# Altium footprint library Capacitors.PcbLib: 81 footprints (part 4 of 6)
Each footprint in its own frame and in the unit in brackets; x right, y up, seen from the top. Pads: shape width x height; smd on the part's side, far side on the other; paste and mask are expansions set on the pad; w line width, h text height; cw(c..) or ccw(c..) is an arc to the next point about the centre after c.
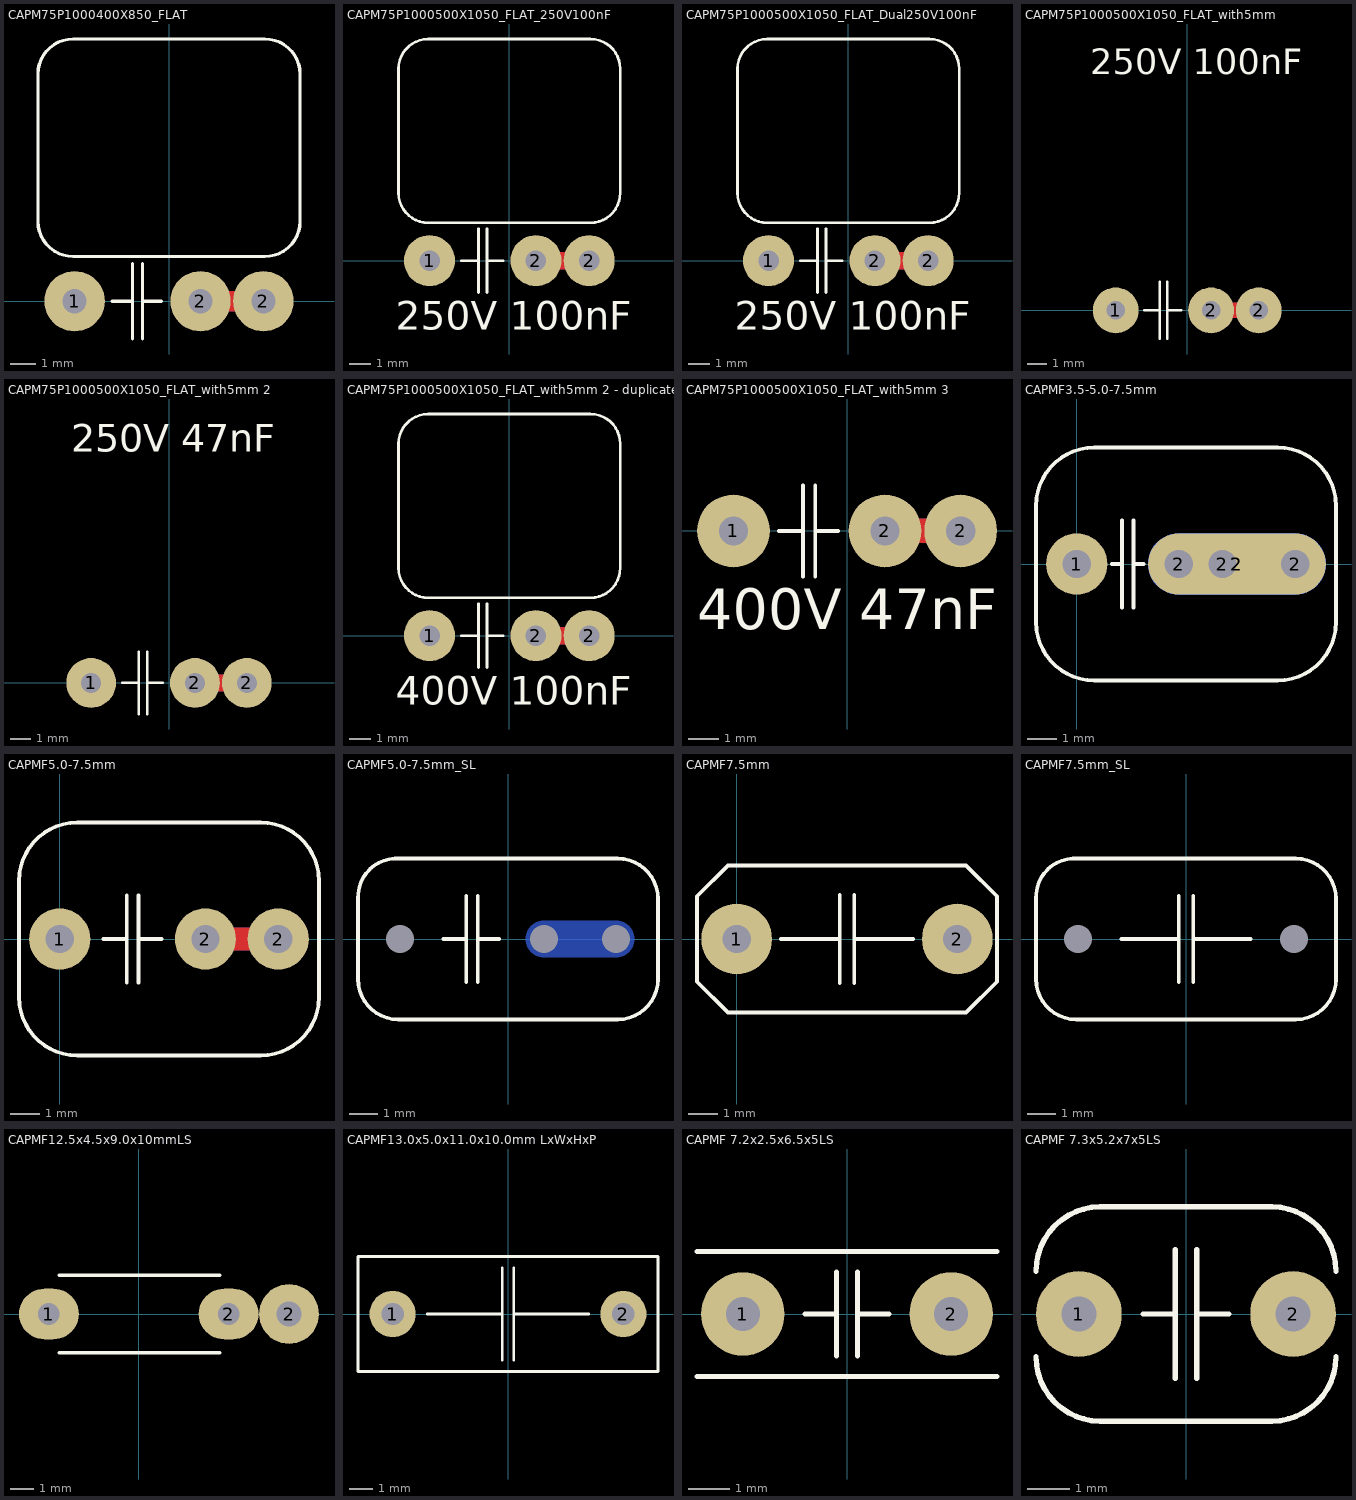
[diagram p3: the footprints below, top view; thin cyan lines are the x and y axes]

## CAPM75P1000400X850_FLAT [mm] "Capacitor, THT, Metallized Polyester Film with 3.5x9.5x10.0mm TxHxW"
height 3.5
pads (3):
  round 2.4 hole 0.965: 1(-3.75,0) 2(1.25,0) 2(3.75,0)
Top Layer:
  lines w0.813: 1.25,0 3.75,0
Bottom Layer:
  lines w0.813: 1.25,0 3.75,0
Top Overlay:
  lines w0.127: -2.25,0 -1.45,0 ; -1.45,-1.5 -1.45,1.5 ; -1.05,-1.5 -1.05,1.5 ; -1.05,0 -0.3,0 ; -5.207,3.175 ccw(c-3.81,3.175) -3.81,1.778 3.81,1.778 ccw(c3.81,3.175) 5.207,3.175 5.207,9.017 ccw(c3.81,9.017) 3.81,10.414 -3.81,10.414 ccw(c-3.81,9.017) -5.207,9.017 -5.207,3.175
3D body "CAPM75P1000400X850_FLAT.STEP": height 4, standoff -1.78, extent -5,-0.249 5,9.6

## CAPM75P1000500X1050_FLAT_250V100nF [mm] "Capacitor, THT, Metallized Polyester Film with 3.5x9.5x10.0mm TxHxW"
height 3.5
pads (3):
  round 2.4 hole 0.965: 1(-3.75,0) 2(1.25,0) 2(3.75,0)
Top Layer:
  lines w0.813: 1.25,0 3.75,0
Bottom Layer:
  lines w0.813: 1.25,0 3.75,0
Top Overlay:
  lines w0.127: -2.25,0 -1.45,0 ; -1.45,-1.5 -1.45,1.5 ; -1.05,-1.5 -1.05,1.5 ; -1.05,0 -0.3,0 ; -5.207,3.175 ccw(c-3.81,3.175) -3.81,1.778 3.81,1.778 ccw(c3.81,3.175) 5.207,3.175 5.207,9.017 ccw(c3.81,9.017) 3.81,10.414 -3.81,10.414 ccw(c-3.81,9.017) -5.207,9.017 -5.207,3.175
  text "250V 100nF" at -5.334,-3.683 h2.29
3D body "CAPM50P730450X950_FLAT.STEP": height 4.5, standoff -1.78, extent -4.92,-0.249 2.38,10.6
3D body "CAPM75P1000400X850_FLAT.STEP": height 4, standoff -1.78, extent -5,-0.249 5,9.6

## CAPM75P1000500X1050_FLAT_Dual250V100nF [mm] "Capacitor, THT, Metallized Polyester Film with 3.5x9.5x10.0mm TxHxW"
height 3.5
pads (3):
  round 2.4 hole 0.965: 1(-3.75,0) 2(1.25,0) 2(3.75,0)
Top Layer:
  lines w0.813: 1.25,0 3.75,0
Bottom Layer:
  lines w0.813: 1.25,0 3.75,0
Top Overlay:
  lines w0.127: -2.25,0 -1.45,0 ; -1.45,-1.5 -1.45,1.5 ; -1.05,-1.5 -1.05,1.5 ; -1.05,0 -0.3,0 ; -5.207,3.175 ccw(c-3.81,3.175) -3.81,1.778 3.81,1.778 ccw(c3.81,3.175) 5.207,3.175 5.207,9.017 ccw(c3.81,9.017) 3.81,10.414 -3.81,10.414 ccw(c-3.81,9.017) -5.207,9.017 -5.207,3.175
  text "250V 100nF" at -5.334,-3.683 h2.29
3D body "CAPMUC75P900420X810_FLAT.STEP": height 4.2, standoff -1.78, extent -4.5,-0.249 4.5,9.6
3D body "CAPMUC50P650570X860_FLAT.STEP": height 5.7, standoff -1.78, extent -4.5,-0.249 2,10.1
3D body "CAPM50P760540X1040_FLAT.STEP": height 5.4, standoff -1.78, extent -5.05,-0.249 2.55,11.5
3D body "CAPM50P730450X950_FLAT.STEP": height 4.5, standoff -1.78, extent -4.9,-0.249 2.4,10.6
3D body "CAPM75P1000400X850_FLAT.STEP": height 4, standoff -1.78, extent -5,-0.249 5,9.6

## CAPM75P1000500X1050_FLAT_with5mm [mm] "Capacitor, THT, Metallized Polyester Film with 3.5x9.5x10.0mm TxHxW"
height 3.5
pads (3):
  round 2.4 hole 0.965: 1(-3.75,0) 2(1.25,0) 2(3.75,0)
Top Layer:
  lines w0.813: 1.25,0 3.75,0
Bottom Layer:
  lines w0.813: 1.25,0 3.75,0
Top Overlay:
  lines w0.127: -2.25,0 -1.45,0 ; -1.45,-1.5 -1.45,1.5 ; -1.05,-1.5 -1.05,1.5 ; -1.05,0 -0.3,0
  text "250V 100nF" at -5.08,11.938 h2.29
3D body "CAPM50P730450X950_FLAT.STEP": height 4.5, standoff -1.78, extent -4.92,-0.249 2.38,10.6
3D body "CAPM75P1000400X850_FLAT.STEP": height 4, standoff -1.78, extent -5,-0.249 5,9.6

## CAPM75P1000500X1050_FLAT_with5mm 2 [mm] "Capacitor, THT, Metallized Polyester Film with 3.5x9.5x10.0mm TxHxW"
height 3.5
pads (3):
  round 2.4 hole 0.965: 1(-3.75,0) 2(1.25,0) 2(3.75,0)
Top Layer:
  lines w0.813: 1.25,0 3.75,0
Bottom Layer:
  lines w0.813: 1.25,0 3.75,0
Top Overlay:
  lines w0.127: -2.25,0 -1.45,0 ; -1.45,-1.5 -1.45,1.5 ; -1.05,-1.5 -1.05,1.5 ; -1.05,0 -0.3,0
  text "250V 47nF" at -4.699,10.668 h2.29
3D body "CAPM75P1000250X700_FLAT.STEP": height 2.5, standoff -1.78, extent -5,-0.249 5,8.1
3D body "CAPM50P720350X800_FLAT.STEP": height 3.5, standoff -1.78, extent -4.87,-0.249 2.33,9.1

## CAPM75P1000500X1050_FLAT_with5mm 2 - duplicate [mm] "Capacitor, THT, Metallized Polyester Film with 3.5x9.5x10.0mm TxHxW"
height 3.5
pads (3):
  round 2.4 hole 0.965: 1(-3.75,0) 2(1.25,0) 2(3.75,0)
Top Layer:
  lines w0.813: 1.25,0 3.75,0
Bottom Layer:
  lines w0.813: 1.25,0 3.75,0
Top Overlay:
  lines w0.127: -2.25,0 -1.45,0 ; -1.45,-1.5 -1.45,1.5 ; -1.05,-1.5 -1.05,1.5 ; -1.05,0 -0.3,0 ; -5.207,3.175 ccw(c-3.81,3.175) -3.81,1.778 3.81,1.778 ccw(c3.81,3.175) 5.207,3.175 5.207,9.017 ccw(c3.81,9.017) 3.81,10.414 -3.81,10.414 ccw(c-3.81,9.017) -5.207,9.017 -5.207,3.175
  text "400V 100nF" at -5.334,-3.683 h2.29
3D body "CAPM50P780780X1300_FLAT.STEP": height 7.8, standoff -1.78, extent -5.17,-0.249 2.63,14.1
3D body "CAPM75P1000500X1050_FLAT.STEP": height 5, standoff -1.78, extent -5,-0.249 5,11.6

## CAPM75P1000500X1050_FLAT_with5mm 3 [mm] "Capacitor, THT, Metallized Polyester Film with 3.5x9.5x10.0mm TxHxW"
height 3.5
pads (3):
  round 2.4 hole 0.965: 1(-3.75,0) 2(1.25,0) 2(3.75,0)
Top Layer:
  lines w0.813: 1.25,0 3.75,0
Bottom Layer:
  lines w0.813: 1.25,0 3.75,0
Top Overlay:
  lines w0.127: -2.25,0 -1.45,0 ; -1.45,-1.5 -1.45,1.5 ; -1.05,-1.5 -1.05,1.5 ; -1.05,0 -0.3,0
  text "400V 47nF" at -4.953,-3.683 h2.29
3D body "CAPM75P1000400X850_FLAT.STEP": height 4, standoff -1.78, extent -5,-0.249 5,9.6
3D body "CAPM50P730450X950_FLAT.STEP": height 4.5, standoff -1.78, extent -4.92,-0.249 2.38,10.6

## CAPMF3.5-5.0-7.5mm [mm] "Capacitor, THT, Metallized Polyester Film, 3.5 & 5.0 & 7.5mm pitch hybrid"
height 10
pads (6):
  round 2.1 hole 0.965: 1(0,0)
  round 1.5 hole 0.965: 2(3.5,0) 2(5,0) 2(7.5,0)
  oval 6.1x2.1 smd: 2(5.5,0)
  oval 6.1x2.1 smd far side: 2(5.5,0)
Top Overlay:
  lines w0.127: 1.2,0 1.55,0 ; 1.55,-1.5 1.55,1.5 ; 1.95,-1.5 1.95,1.5 ; 1.95,0 2.3,0 ; -1.4,-2 ccw(c0.6,-2) 0.6,-4 6.9,-4 ccw(c6.9,-2) 8.9,-2 8.9,2 ccw(c6.9,2) 6.9,4 0.6,4 ccw(c0.6,2) -1.4,2 -1.4,-2
3D body "mfcap_7.5mm 10x8x11mm.stp": height 11, standoff -2.54, extent -1.25,-4 8.75,4

## CAPMF5.0-7.5mm [mm] "Capacitor, THT, Metallized Polyester Film, 5 & 7.5mm pitch hybrid"
height 10
pads (3):
  round 2.1 hole 0.965: 1(0,0) 2(5,0) 2(7.5,0)
Top Layer:
  lines w0.8: 5,0 7.5,0
Bottom Layer:
  lines w0.8: 5,0 7.5,0
Top Overlay:
  lines w0.127: 1.5,0 2.3,0 ; 2.3,-1.5 2.3,1.5 ; 2.7,-1.5 2.7,1.5 ; 2.7,0 3.5,0 ; -1.4,-2 ccw(c0.6,-2) 0.6,-4 6.9,-4 ccw(c6.9,-2) 8.9,-2 8.9,2 ccw(c6.9,2) 6.9,4 0.6,4 ccw(c0.6,2) -1.4,2 -1.4,-2
3D body "mfcap_7.5mm 10x8x11mm.stp": height 11, standoff -2.54, extent -1.25,-4 8.75,4

## CAPMF5.0-7.5mm_SL [mm] "Capacitor, THT, Metallized Polyester Film"
height 9
pads (3):
  round 0 / inner round 0 / far side round 2.4 hole 0.965 unplated: 1(-3.75,0) 2(1.25,0) 2(3.75,0)
Bottom Layer:
  lines w1.27: 1.25,0 3.75,0
Top Overlay:
  lines w0.127: -2.25,0 -1.45,0 ; -1.45,-1.5 -1.45,1.5 ; -1.05,-1.5 -1.05,1.5 ; -1.05,0 -0.3,0 ; -5.207,-1.397 ccw(c-3.81,-1.397) -3.81,-2.794 3.81,-2.794 ccw(c3.81,-1.397) 5.207,-1.397 5.207,1.397 ccw(c3.81,1.397) 3.81,2.794 -3.937,2.794 ccw(c-3.873,1.46) -5.207,1.397 -5.207,-1.397
3D body "CAPF_6.0x9.0x10.5 TxHxW 7.5mmLS.STEP": height 9, standoff -2.54, extent -5.25,-3 5.25,3

## CAPMF7.5mm [mm] "Capacitor, THT, Metallized Polyester Film"
height 10
pads (2):
  round 2.4 hole 0.965: 1(0,0) 2(7.5,0)
Top Overlay:
  lines w0.127: 1.5,0 3.5,0 ; 3.5,-1.5 3.5,1.5 ; 4,-1.5 4,1.5 ; 4,0 6,0 ; -1.35,-1.45 -0.3,-2.5 7.8,-2.5 8.85,-1.45 8.85,1.45 7.8,2.5 -0.3,2.5 -1.35,1.45 -1.35,-1.45
3D body: height 10, standoff 0.5, extent -1.35,-2.5 8.85,2.5

## CAPMF7.5mm_SL [mm] "Capacitor, THT, Metallized Polyester Film"
height 9
pads (2):
  round 0 / inner round 0 / far side round 2.4 hole 0.965 unplated: 1(-3.75,0) 2(3.75,0)
Top Overlay:
  lines w0.127: -2.25,0 -0.25,0 ; -0.25,-1.5 -0.25,1.5 ; 0.25,-1.5 0.25,1.5 ; 0.25,0 2.25,0 ; -5.207,-1.397 ccw(c-3.81,-1.397) -3.81,-2.794 3.81,-2.794 ccw(c3.81,-1.397) 5.207,-1.397 5.207,1.397 ccw(c3.81,1.397) 3.81,2.794 -3.937,2.794 ccw(c-3.873,1.46) -5.207,1.397 -5.207,-1.397
3D body "CAPF_5.5x9.0x10.0 TxHxW 7.5mmLS.STEP": height 9, standoff -2.54, extent -5,-2.75 5,2.75

## CAPMF12.5x4.5x9.0x10mmLS [mil] "Capacitor, MF, Thru-Hole, Dipped Radial; Body 12.5 x 4.5 x 9.0 mm (WxTxH) Pin Spacing 10.0 mm (typ)"
height 354.33
pads (3):
  oval 100x85 hole 36: 1(-150,0) 2(150,0)
  round 100 hole 42: 2(251,0)
Top Overlay:
  lines w6: -132.72,-65 135,-65 ; -132.72,65 135,65
3D body "CAPMF_12.5x4.5x8mm LxTxH 10mmLS.STEP": height 354.33, standoff -100, extent -196.06,-88.58 296.07,88.59

## CAPMF13.0x5.0x11.0x10.0mm LxWxHxP [mm] "Capacitor, THT, Metallized Polypropylene Film, 10mm lead pitch"
height 11
pads (2):
  round 2 hole 0.965: 1(-5,0) 2(5,0)
Top Overlay:
  lines w0.127: -3.5,0 -0.25,0 ; -0.25,-2 -0.25,2 ; 0.25,-2 0.25,2 ; 0.25,0 3.5,0 ; -6.5,-2.5 -6.5,2.5 6.5,2.5 6.5,-2.5 -6.5,-2.5
3D body: height 11, standoff 0, extent -6.5,-2.5 6.5,2.5

## CAPMF 7.2x2.5x6.5x5LS [mm] "Capacitor, THT, Metallized Polyester Film"
height 8.2
pads (2):
  round 2 hole 0.813: 1(-2.5,0) 2(2.5,0)
Top Overlay:
  lines w0.127: -3.6,-1.5 3.6,-1.5 ; -3.6,1.5 3.6,1.5 ; -1,0 -0.25,0 ; -0.25,-1 -0.25,1 ; 0.25,-1 0.25,1 ; 0.25,0 1,0
3D body "Cap, film, 7.2x2.5x6.5x5LS.STEP": height 7.5, standoff -2, extent -3.6,-1.25 3.6,1.25

## CAPMF 7.3x5.2x7x5LS [mm] "Capacitor, THT, Metallized Polyester Film"
height 7
pads (2):
  round 2 hole 0.813: 1(-2.5,0) 2(2.5,0)
Top Overlay:
  lines w0.127: -3.5,-1 ccw(c-2,-1) -2,-2.5 2,-2.5 ccw(c2,-1) 3.5,-1 ; -3.5,1 cw(c-2,1) -2,2.5 2,2.5 cw(c2,1) 3.5,1 ; -1,0 -0.25,0 ; -0.25,-1.5 -0.25,1.5 ; 0.25,-1.5 0.25,1.5 ; 0.25,0 1,0
3D body "Cap, film, 7.3x5.2x7x5LS.STP": height 8, standoff -2, extent -3.65,-2.6 3.65,2.6